# Altium schematic symbol library 场效应管-可控硅.SchLib: 26 symbols
Pins are listed as number, name and electrical type; pins without a type are passive.

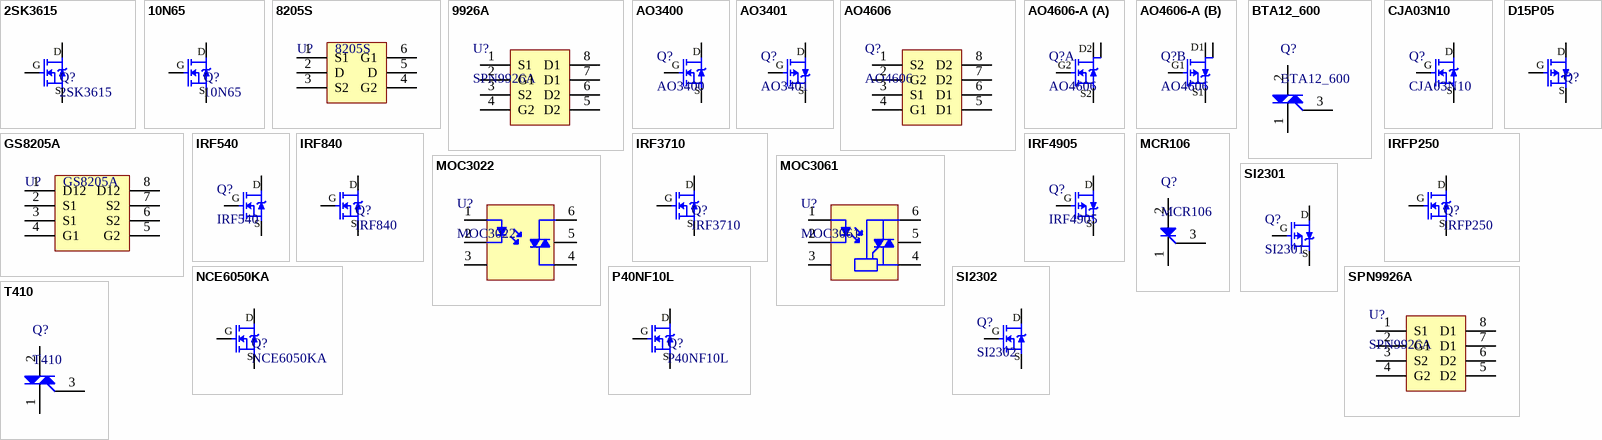
[diagram p0: symbols 2SK3615 to T410]

## 2SK3615
designator Q?
N沟道 60V/12A; BOM名称: 场效应管; 版权归属: 源创客; 学习资源: www.ooocke.com; 描述: N沟道 60V/12A
footprint TO252 (252晶体管)
footprint TO220A (220，3脚晶体管)
footprint TO220B (220，3脚晶体管)
footprint TO220C (220，3脚晶体管)
pins: 1 G, 2 D, 3 S

## 10N65
designator Q?
N沟道 650V/10A; BOM名称: 场效应管; 版权归属: 源创客; 学习资源: www.ooocke.com; 描述: N沟道  650V/10A
footprint TO220A (220，3脚晶体管)
footprint TO220B (220，3脚晶体管)
footprint TO220C (220，3脚晶体管)
pins: 1 G, 2 S, 3 D

## 8205S
designator U?
N沟道增强型功率场效应管; BOM名称: 场效应管; 版权归属: 源创客; 学习资源: www.ooocke.com
footprint SOT23-6N (3x1.6x1.1mm(长宽高))
footprint SOT23-6L (3x1.6x1.1mm(长宽高))
footprint SOT23-6M (3x1.6x1.1mm(长宽高))
pins: 1 S1, 2 D, 3 S2, 4 G2, 5 D, 6 G1

## 9926A
designator U?, comment SPN9926A
组合对场效应管; 版权归属: 源创客; BOM名称: 组合对场效应管; 学习资源: www.ooocke.com
footprint SOP8_L (5*6*1.8mm（长宽高）)
footprint SOP8_M (5*6*1.8mm（长宽高）)
footprint SOP8_N (5*6*1.8mm（长宽高）)
pins: 1 S1, 2 G1, 3 S2, 4 G2, 5 D2, 6 D2, 7 D1, 8 D1

## AO3400
designator Q?
N沟道 30V/4.2A; BOM名称: 场效应管; 版权归属: 源创客; 学习资源: www.ooocke.com; 描述: N沟道 30V/4.2A
footprint SOT23-3N (3x1.3x1mm(长宽高))
footprint SOT23-3L (3x1.3x1mm(长宽高))
footprint SOT23-3M (3x1.3x1mm(长宽高))
pins: 1 G, 2 S, 3 D

## AO3401
designator Q?
P沟道 30V/4.2A; BOM名称: 场效应管; 版权归属: 源创客; 学习资源: www.ooocke.com; 描述: P沟道 30V/4.2A
footprint SOT23-3N (3x1.3x1mm(长宽高))
footprint SOT23-3L (3x1.3x1mm(长宽高))
footprint SOT23-3M (3x1.3x1mm(长宽高))
pins: 1 G, 2 S, 3 D

## AO4606
designator Q?
互补沟道 30V/6.9A/5A; BOM名称: 场效应管; 版权归属: 源创客; 学习资源: www.ooocke.com; 描述: 互补沟道 30V/6.9A/5A
footprint SOP8_L (5*6*1.8mm（长宽高）)
footprint SOP8_M (5*6*1.8mm（长宽高）)
footprint SOP8_N (5*6*1.8mm（长宽高）)
pins: 1 S2, 2 G2, 3 S1, 4 G1, 5 D1, 6 D1, 7 D2, 8 D2

## AO4606-A
designator Q?, comment AO4606
互补沟道 30V/6.9A/5A; BOM名称: 场效应管; 版权归属: 源创客; 学习资源: www.ooocke.com; 描述: 互补沟道 30V/6.9A/5A
footprint SOP8_L (5*6*1.8mm（长宽高）)
footprint SOP8_M (5*6*1.8mm（长宽高）)
footprint SOP8_N (5*6*1.8mm（长宽高）)
part A pins: 1 S2, 2 G2, 7 D2, 8 D2
part B pins: 3 S, 4 G, 5 D, 6 D
part B text: D1; G1; S1

## BTA12_600
designator Q?
双向可控硅; 版权归属: 源创客; BOM名称: 双向可控硅; 学习资源: www.ooocke.com
footprint TO220A (220，3脚晶体管)
footprint TO220B (220，3脚晶体管)
footprint TO252 (252晶体管)
footprint TO220C (220，3脚晶体管)
pins: 1 A1, 2 A2, 3 G

## CJA03N10
designator Q?
N沟道 100V/3A; BOM名称: 场效应管; 版权归属: 源创客; 学习资源: www.ooocke.com; 描述: N沟道 100V/3A
footprint SOT89_N (4.6x4.3x1.6mm(长宽高))
footprint SOT89_L (4.6x4.3x1.6mm(长宽高))
footprint SOT89_M (4.6x4.3x1.6mm(长宽高))
pins: 1 G, 2 D, 3 S

## D15P05
designator Q?  (value not drawn)
P沟道 50V/15A; BOM名称: 场效应管; 版权归属: 源创客; 学习资源: www.ooocke.com; 描述: P沟道 50V/15A
footprint TO252 (252晶体管)
footprint TO220A (220，3脚晶体管)
footprint TO220B (220，3脚晶体管)
footprint TO220C (220，3脚晶体管)
pins: 1 G, 2 S, 3 D

## GS8205A
designator U?
双N沟道 20V/5A; BOM名称: 场效应管; 版权归属: 源创客; 学习资源: www.ooocke.com; 描述: 双N沟道 20V/5A
footprint SSOP8_N (3*6.4*1.2mm（长宽高）)
footprint SSOP8_L (3*6.4*1.2mm（长宽高）)
footprint SSOP8_M (3*6.4*1.2mm（长宽高）)
pins: 1 D12, 2 S1, 3 S1, 4 G1, 5 G2, 6 S2, 7 S2, 8 D12

## IRF540
designator Q?
N沟场 100V/22A; BOM名称: 效应管; 版权归属: 源创客; 学习资源: www.ooocke.com; 描述: N沟场 100V/22A
footprint TO263-3A (263，3脚晶体管)
footprint TO263-3B (263，3脚晶体管)
pins: 1 G, 2 S, 3 D

## IRF840
designator Q?
N沟道 500V/8A; BOM名称: 场效应管; 版权归属: 源创客; 学习资源: www.ooocke.com; 描述: N沟道 500V/8A
footprint TO220A (220，3脚晶体管)
footprint TO220B (220，3脚晶体管)
footprint TO220C (220，3脚晶体管)
pins: 1 G, 2 S, 3 D

## IRF3710
designator Q?
N沟道 100V/57A; BOM名称: 场效应管; 版权归属: 源创客; 学习资源: www.ooocke.com; 描述: N沟道 100V/57A
footprint TO252 (252晶体管)
footprint TO220A (220，3脚晶体管)
footprint TO220B (220，3脚晶体管)
footprint TO220C (220，3脚晶体管)
pins: 1 G, 2 S, 3 D

## IRF4905
designator Q?
P沟道 55V74A; BOM名称: 场效应管; 版权归属: 源创客; 学习资源: www.ooocke.com; 描述: P沟道 55V74A
footprint TO220A (220，3脚晶体管)
footprint TO220B (220，3脚晶体管)
footprint TO220C (220，3脚晶体管)
pins: 1 G, 2 S, 3 D

## IRFP250
designator Q?
N沟道 200V/30A; BOM名称: 场效应管; 版权归属: 源创客; 学习资源: www.ooocke.com; 描述: N沟道 200V/30A
footprint TO247A (247，3脚晶体管)
footprint TO247b (247，3脚晶体管)
pins: 1 G, 2 D, 3 S

## MCR106
designator Q?
单向可控硅 400V/4A; 版权归属: 源创客; BOM名称: 单向可控硅; 学习资源: www.ooocke.com; 描述: 单向可控硅 400V/4A
footprint TO126 (126晶体管)
pins: 1 K, 2 A, 3 G

## MOC3022
designator U?
光可控硅; 版权归属: 源创客; BOM名称: 光可控硅; 学习资源: www.ooocke.com
footprint DIP6-300 (6.8*7.6*3.8(长宽高）)
pins: 1 +, 2 -, 3 NC, 4, 5, 6

## MOC3061
designator U?
零点触发光可控硅; BOM名称: 光可控硅; 版权归属: 源创客; 学习资源: www.ooocke.com
footprint DIP6-300 (6.8*7.6*3.8(长宽高）)
pins: 1 +, 2 -, 3 NC, 4, 5, 6

## NCE6050KA
designator Q?
N沟场，60V/50A; BOM名称: N沟场效应管; 版权归属: 源创客; 学习资源: www.ooocke.com
footprint TO252 (252晶体管)
pins: 1 G, 2 D, 3 S

## P40NF10L
designator Q?
N沟道 100V/40A; BOM名称: 场效应管; 版权归属: 源创客; 学习资源: www.ooocke.com; 描述: N沟道 100V/40A
footprint TO252 (252晶体管)
footprint TO220A (220，3脚晶体管)
footprint TO220B (220，3脚晶体管)
footprint TO220C (220，3脚晶体管)
pins: 1 G, 2 S, 3 D

## SI2301
designator Q?
P沟道 20V/2.8A; BOM名称: 场效应管; 版权归属: 源创客; 学习资源: www.ooocke.com; 描述: P沟道 20V/2.8A
footprint SOT23-3N (3x1.3x1mm(长宽高))
footprint SOT23-3L (3x1.3x1mm(长宽高))
footprint SOT23-3M (3x1.3x1mm(长宽高))
pins: 1 G, 2 S, 3 D

## SI2302
designator Q?
N沟道 20V/3A; BOM名称: 场效应管; 版权归属: 源创客; 学习资源: www.ooocke.com; 描述: N沟道 20V/3A
footprint SOT23-3N (3x1.3x1mm(长宽高))
footprint SOT23-3L (3x1.3x1mm(长宽高))
footprint SOT23-3M (3x1.3x1mm(长宽高))
pins: 1 G, 2 S, 3 D

## SPN9926A
designator U?
双N沟道 20V/5A; BOM名称: 双N沟道场效应管; 版权归属: 源创客; 学习资源: www.ooocke.com; 描述: 双N沟道 20V/5A
footprint SOP8_L (5*6*1.8mm（长宽高）)
footprint SOP8_M (5*6*1.8mm（长宽高）)
footprint SOP8_N (5*6*1.8mm（长宽高）)
pins: 1 S1, 2 G1, 3 S2, 4 G2, 5 D2, 6 D2, 7 D1, 8 D1

## T410
designator Q?
双向可控硅; 版权归属: 源创客; BOM名称: 双向可控硅; 学习资源: www.ooocke.com
footprint TO220A (220，3脚晶体管)
footprint TO220B (220，3脚晶体管)
footprint TO252 (252晶体管)
footprint TO220C (220，3脚晶体管)
pins: 1 A1, 2 A2, 3 G